# Altium footprint library LEDSC125X200X90-2N.PcbLib: 1 footprints
Each footprint in its own frame and in the unit in brackets; x right, y up, seen from the top. Pads: shape width x height; smd on the part's side, far side on the other; paste and mask are expansions set on the pad; w line width, h text height; cw(c..) or ccw(c..) is an arc to the next point about the centre after c.
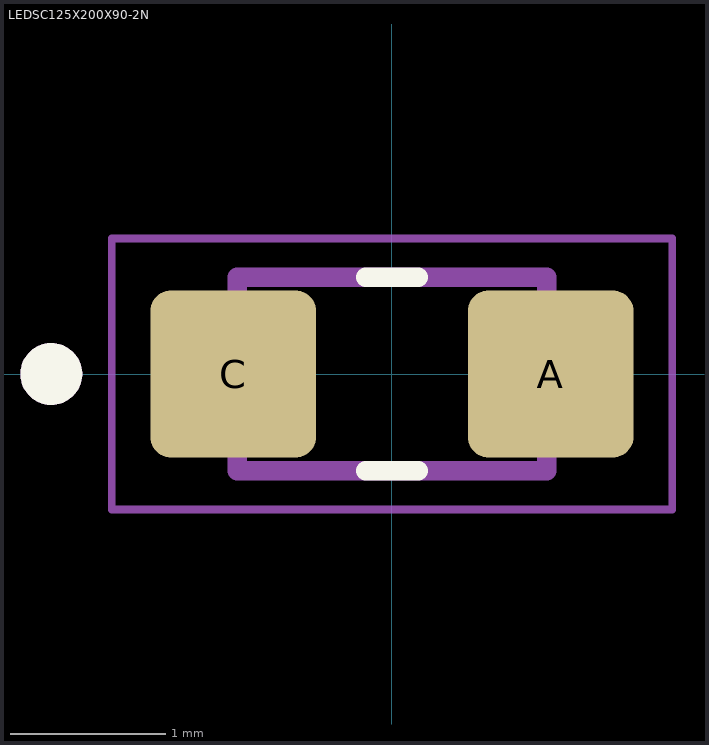
[diagram p0: the footprint, top view; thin cyan lines are the x and y axes]

## LEDSC125X200X90-2N [mm]
height 0.9
pads (2):
  rrect25% 1.07x1.08 smd: A(1.025,0) C(-1.025,0)
Top Overlay:
  circle w0.2: c-2.2,0 r0.1
  lines w0.127: -0.17,-0.625 0.17,-0.625 ; -0.17,0.625 0.17,0.625
Mechanical 13:
  circle w0.2: c-2.2,0 r0.1
  lines w0.127: -1,-0.625 1,-0.625 1,0.625 -1,0.625 -1,-0.625
Mechanical 15:
  lines w0.05: -1.81,-0.875 -1.81,0.875 1.81,0.875 1.81,-0.875 -1.81,-0.875
3D body "step_temp.STEP": height 0.7, standoff 0, extent -1,-0.625 1,0.625